# EAGLE library part LT3500 (library PowerProducts)
LT-Spice library generated with : ltspice.ulp from: E:/Programme/LTC/LTspiceIV/lib/sym/PowerProducts/LT3501*.asy at 05.10.2012 12:20:15
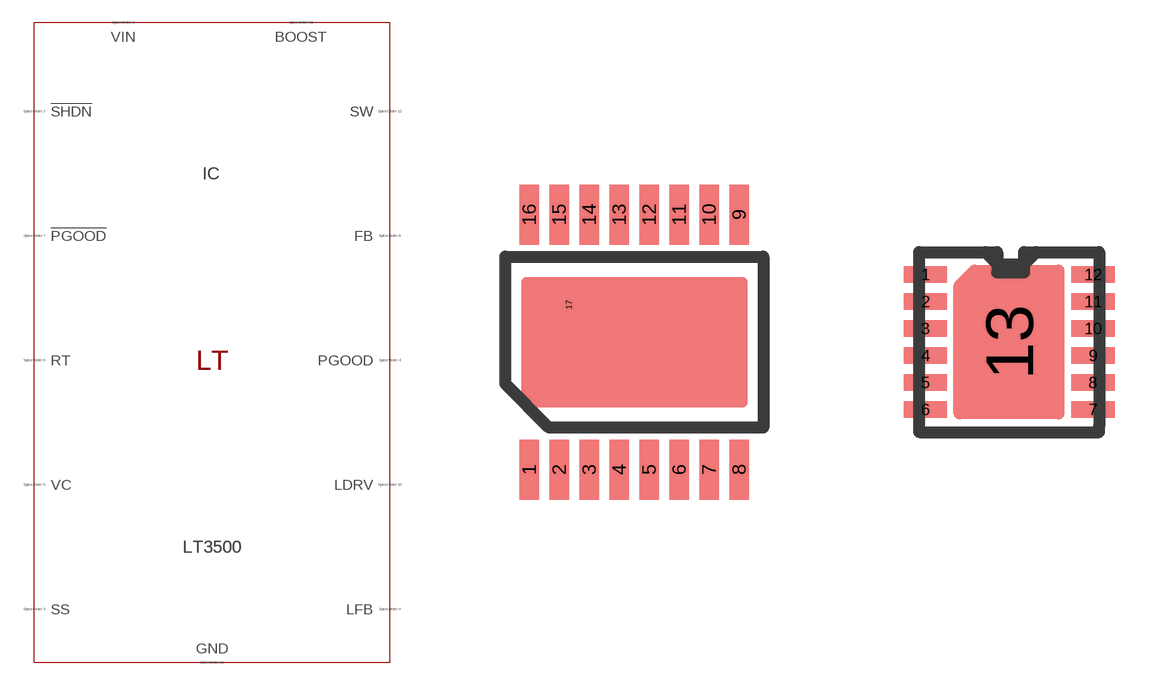
[diagram p60: symbol with the pads of MSOP16(MSE); footprints MSOP16(MSE), DFN12(DD)]

Designator prefix IC

## LT3500MSE (SPICEMODEL: LT3500.sub; SPICEPREFIX: X; VALUE2: LT3500)  [MSOP16(MSE)]
2  VIN  pas
3  !SHDN  pas
4  SS  pas
5  PGOOD  pas
6  VC  pas
7  RT  pas
10  !PGOOD  pas
11  FB  pas
12  LFB  pas
13  LDRV  pas
14  BOOST  pas
15  SW  pas
17  GND  pas

## LT3500 (SPICEMODEL: LT3500.sub; SPICEPREFIX: X; VALUE2: LT3500)  [DFN12(DD)]
1  VIN  pas
2  !SHDN  pas
3  SS  pas
4  PGOOD  pas
5  VC  pas
6  RT  pas
7  !PGOOD  pas
8  FB  pas
9  LFB  pas
10  LDRV  pas
11  BOOST  pas
12  SW  pas
13  GND  pas

## Footprint MSOP16(MSE) (pad centres in mm)
Package generated from: MSOP16(MSE).asc (!PADS-POWERPCB-V9.3-BASIC! DESIGN DATABASE ASCII FILE 1.0) with :import-pads-powerpcb-v5.ulp Version 1.0.1 at 04.10.2012 14:11:19
smd 0.495 x 1.5: 1 -2.625,-3.188; 2 -1.875,-3.188; 3 -1.125,-3.188; 4 -0.375,-3.188; 5 0.375,-3.188; 6 1.125,-3.188; 7 1.875,-3.188; 8 2.625,-3.188; 9 2.625,3.188; 10 1.875,3.188; 11 1.125,3.188; 12 0.375,3.188; 13 -0.375,3.188; 14 -1.125,3.188; 15 -1.875,3.188; 16 -2.625,3.188
smd 0 x 0.525: 17 -1.635,0.93

## Footprint DFN12(DD) (pad centres in mm)
Package generated from: DFN12(DD).asc (!PADS-POWERPCB-V9.3-BASIC! DESIGN DATABASE ASCII FILE 1.0) with :import-pads-powerpcb-v5.ulp Version 1.0.1 at 04.10.2012 14:11:16
smd 1.087 x 0.412: 1 -2.096,1.688; 2 -2.096,1.012; 3 -2.096,0.338; 4 -2.096,-0.338; 5 -2.096,-1.012; 6 -2.096,-1.688; 7 2.096,-1.688; 8 2.096,-1.012; 9 2.096,-0.338; 10 2.096,0.338; 11 2.096,1.012; 12 2.096,1.688
smd 2.475 x 2.7: 13 0,0